# Altium footprint library oscillators.PcbLib: 1 footprints
Each footprint in its own frame and in the unit in brackets; x right, y up, seen from the top. Pads: shape width x height; smd on the part's side, far side on the other; paste and mask are expansions set on the pad; w line width, h text height; cw(c..) or ccw(c..) is an arc to the next point about the centre after c.
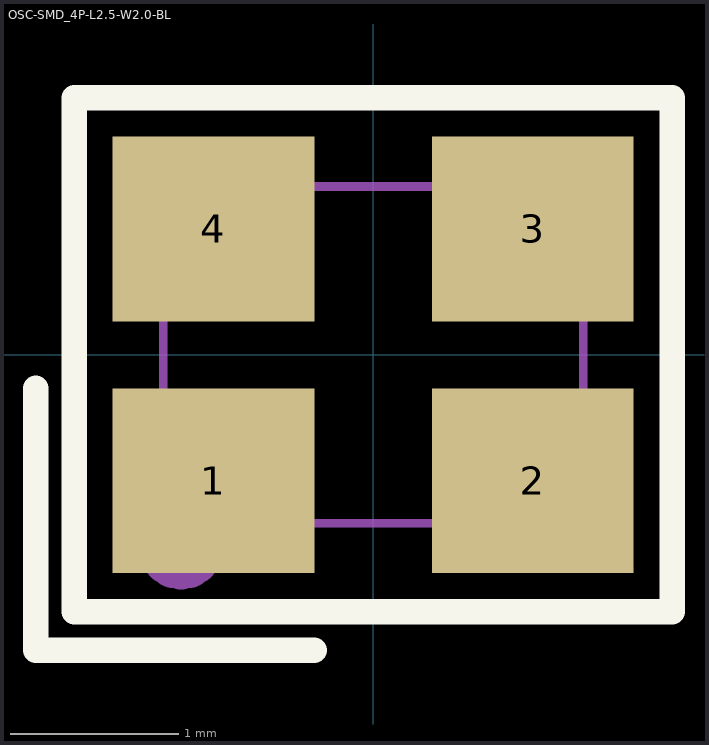
[diagram p0: the footprint, top view; thin cyan lines are the x and y axes]

## OSC-SMD_4P-L2.5-W2.0-BL [mil]
pads (4):
  rect 47.2x43.3 smd: 1(-37.4,-29.5) 2(37.4,-29.5) 3(37.4,29.5) 4(-37.4,29.5)
Top Overlay:
  lines w6: -79,-7.9 -79,-69.2 -13.8,-69.2 ; -70,-60.2 70,-60.2 70,60.2 -70,60.2 -70,-60.2
Mechanical 2:
  region: 25,-25 45,-25 45,-30 25,-30
  region: -37.5,12.5 -37.5,32.5 -32.5,32.5 -32.5,12.5
  region: -45,25 -25,25 -25,20 -45,20
  lines w10: -50,-45 -49.6,-43.1 -48.5,-41.5 -46.9,-40.4 -45,-40 -43.1,-40.4 -41.5,-41.5 -40.4,-43.1 -40,-45 -40.4,-46.9 -41.5,-48.5 -43.1,-49.6 -45,-50 -46.9,-49.6 -48.5,-48.5 -49.6,-46.9 -50,-45
Mechanical 6:
  lines w2: -49.2,-39.4 49.2,-39.4 49.2,39.4 -49.2,39.4 -49.2,-39.4
Mechanical 8:
  region: -46.8,-39.4 -47.2,-40.6 -48.2,-41.5 -49.5,-41.7 -50.8,-41.2 -51.5,-40 -51.5,-38.7 -50.8,-37.6 -49.5,-37 -48.2,-37.2 -47.2,-38.1
Mechanical 9:
  region: 49.2,-39.4 17.7,-39.4 17.7,-12.8 49.2,-12.8
  region: 49.2,12.8 17.7,12.8 17.7,39.4 49.2,39.4
  region: -17.7,-39.4 -49.2,-39.4 -49.2,-12.8 -17.7,-12.8
  region: -49.2,39.4 -17.7,39.4 -17.7,12.8 -49.2,12.8
3D body "2520 SMD Crystal Oscillator.step": height 26.77, standoff -0.79, extent -49.21,-37.55 49.21,41.19